# Altium footprint library EEG_PcbLib.PcbLib: 77 footprints (part 1 of 5)
Each footprint in its own frame and in the unit in brackets; x right, y up, seen from the top. Pads: shape width x height; smd on the part's side, far side on the other; paste and mask are expansions set on the pad; w line width, h text height; cw(c..) or ccw(c..) is an arc to the next point about the centre after c.
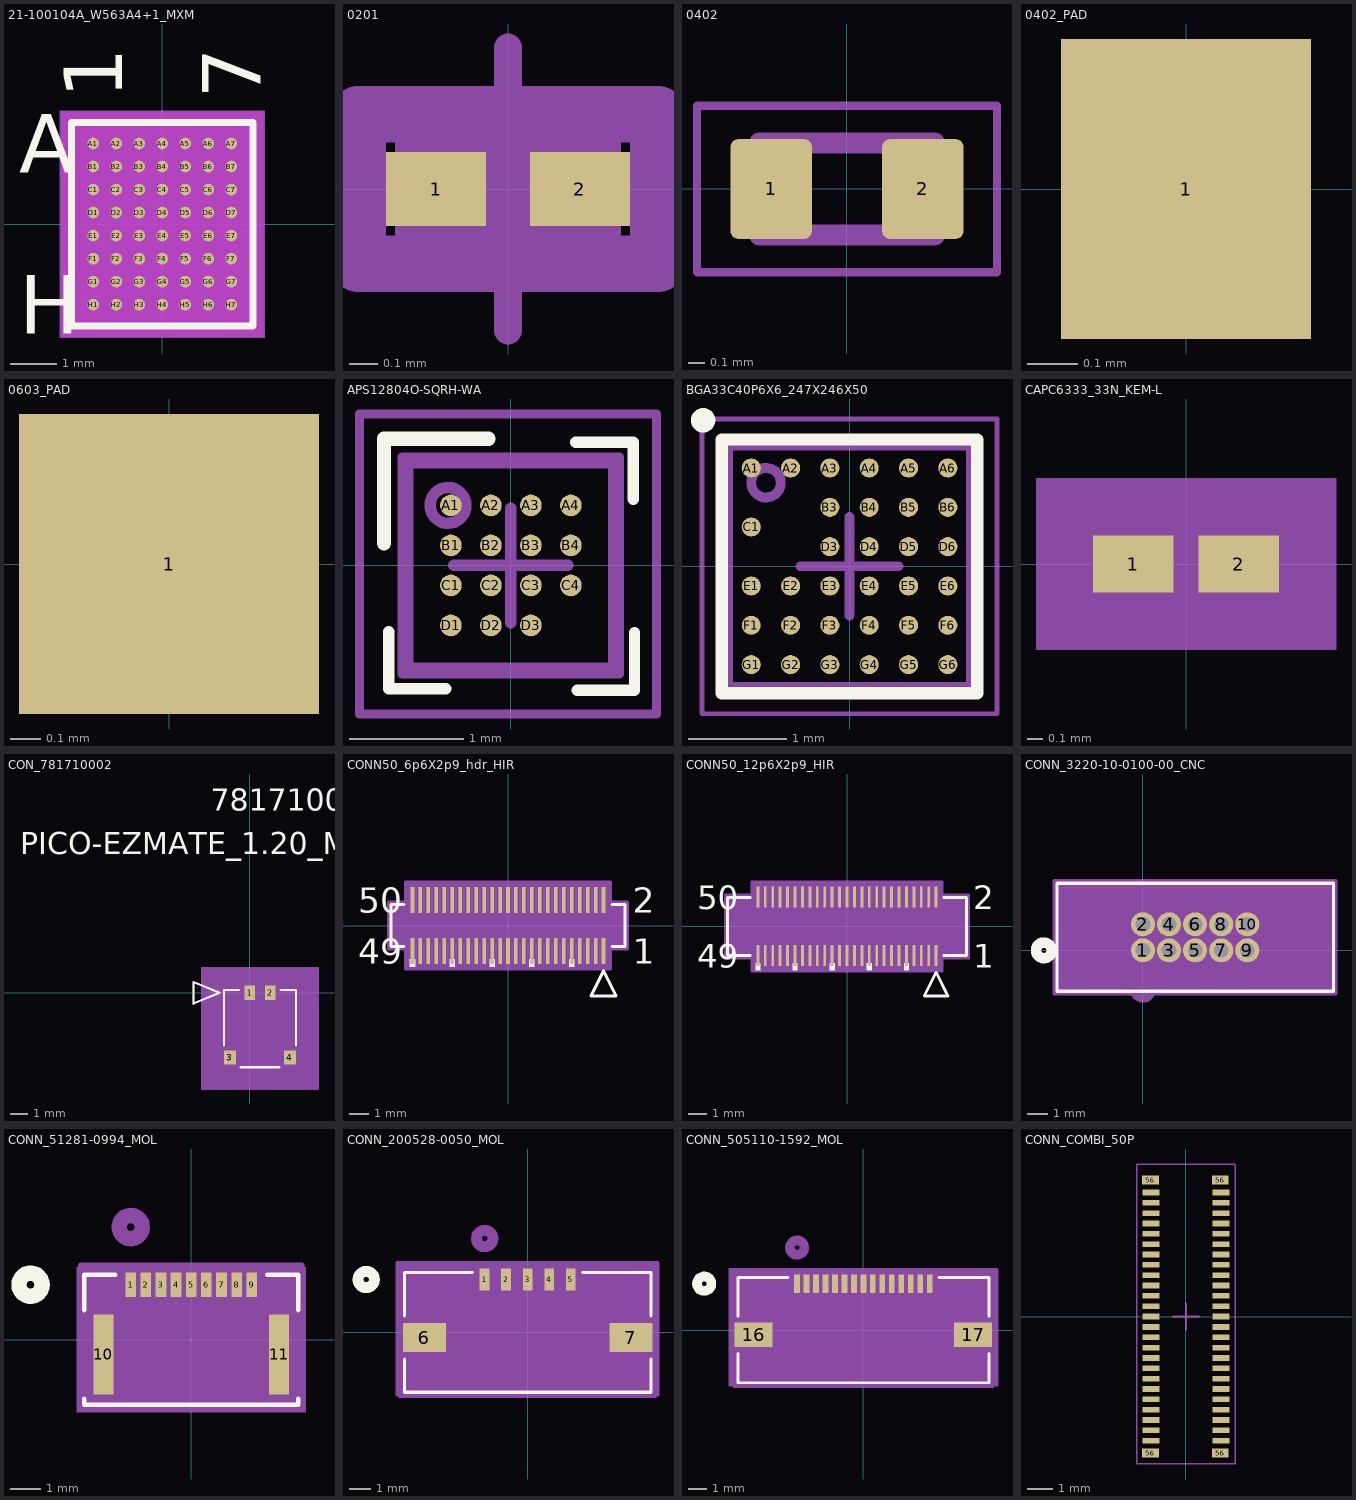
[diagram p0: the footprints below, top view; thin cyan lines are the x and y axes]

## 21-100104A_W563A4+1_MXM [mil]
pads (56):
  round 10 smd paste+0 mask+0: A1(-59.06,68.9) A2(-39.37,68.9) A3(-19.68,68.9) A4(0,68.9) A5(19.68,68.9) A6(39.37,68.9) A7(59.06,68.9) B1(-59.06,49.21) B2(-39.37,49.21) B3(-19.68,49.21) B4(0,49.21) B5(19.68,49.21) B6(39.37,49.21) B7(59.06,49.21) C1(-59.06,29.53) C2(-39.37,29.53) C3(-19.68,29.53) C4(0,29.53) C5(19.68,29.53) C6(39.37,29.53) C7(59.06,29.53) D1(-59.06,9.84) D2(-39.37,9.84) D3(-19.68,9.84) D4(0,9.84) D5(19.68,9.84) D6(39.37,9.84) D7(59.06,9.84) E1(-59.06,-9.84) E2(-39.37,-9.84) E3(-19.68,-9.84) E4(0,-9.84) E5(19.68,-9.84) E6(39.37,-9.84) E7(59.06,-9.84) F1(-59.06,-29.53) F2(-39.37,-29.53) F3(-19.68,-29.53) F4(0,-29.53) F5(19.68,-29.53) F6(39.37,-29.53) F7(59.06,-29.53) G1(-59.06,-49.21) G2(-39.37,-49.21) G3(-19.68,-49.21) G4(0,-49.21) G5(19.68,-49.21) G6(39.37,-49.21) G7(59.06,-49.21) H1(-59.06,-68.9) H2(-39.37,-68.9) H3(-19.68,-68.9) H4(0,-68.9) H5(19.68,-68.9) H6(39.37,-68.9) H7(59.06,-68.9)
Top Overlay:
  lines w6: -77.5,-87 -77.5,87 77.5,87 77.5,-87 -77.5,-87
  text "7" at 84.06,107 h50
  text "1" at -34.06,107 h50
  text "H" at -122.5,-93.9 h50
  text "A" at -122.5,43.9 h50
Bottom Overlay:
  text "7" at 34.06,107 h50
  text "1" at -84.06,107 h50
  text "H" at -97.5,-93.9 h50
  text "A" at -97.5,43.9 h50
Keep-Out Layer:
  region: -86.4,-96.24 -86.4,96.24 86.4,96.24 86.4,-96.24
Mechanical 5:
  region: 87.5,-97 -87.5,-97 -87.5,97 87.5,97
Mechanical 13:
  lines w1: -72.5,72.16 -62.66,82 ; -72.5,-82 -72.5,82 72.5,82 72.5,-82 -72.5,-82
  text "7" at 84.06,107 h50
  text "1" at -34.06,107 h50
  text "H" at -122.5,-93.9 h50
  text "A" at -122.5,43.9 h50
Mechanical 15:
  region: 82.5,-92 -82.5,-92 -82.5,92 82.5,92
  lines w6: -82.5,-92 82.5,-92 82.5,92 -82.5,92 -82.5,-92
3D body "21-100104A_W563A4+1_MXM.step": height 27.09, standoff -0.02, extent -72.52,-82.01 72.52,82.01

## 0201 [mm]
pads (2):
  rect 0.354x0.263 smd paste+0 mask+0: 1(-0.254,0) 2(0.254,0)
Top 3D Body:
  lines w0.2: -0.3,-0.15 0.3,-0.15 0.3,0.15 -0.3,0.15 -0.3,-0.15
Top Assembly:
  lines w0.2: -0.531,-0.265 0.531,-0.265 0.531,0.265 -0.531,0.265 -0.531,-0.265
  text ".Designator" at 0,0.187 h1
Top Courtyard:
  lines w0.2: -0.531,-0.265 0.531,-0.265 0.531,0.265 -0.531,0.265 -0.531,-0.265
Top Component Center:
  lines w0.1: -0.5,0 0.5,0 ; 0,-0.5 0,0.5
3D body "Res_Stackpole_Electronics_RMCF0201JT1K00_eec.STEP": height 0.25, standoff 0, extent -0.531,-0.265 0.531,0.265

## 0402 [mm]
pads (2):
  rrect20% 0.49x0.6 smd: 1(-0.455,0) 2(0.455,0)
Mechanical 13:
  lines w0.127: -0.525,-0.275 0.525,-0.275 0.525,0.275 -0.525,0.275 -0.525,-0.275
Mechanical 15:
  lines w0.05: -0.9,-0.5 0.9,-0.5 0.9,0.5 -0.9,0.5 -0.9,-0.5
3D body "0402.stp": height 0.33, standoff 0.01, extent -0.5,-0.25 0.5,0.25

## 0402_PAD [mm]
pads (1):
  rect 0.5x0.6 smd: 1(0,0)

## 0603_PAD [mm]
pads (1):
  rect 1x1 smd: 1(0,0)

## APS12804O-SQRH-WA [mm]
pads (15):
  round 0.19 smd paste+0 mask+0: A1(-0.525,0.525) A2(-0.175,0.525) A3(0.175,0.525) A4(0.525,0.525) B1(-0.525,0.175) B2(-0.175,0.175) B3(0.175,0.175) B4(0.525,0.175) C1(-0.525,-0.175) C2(-0.175,-0.175) C3(0.175,-0.175) C4(0.525,-0.175) D1(-0.525,-0.525) D2(-0.175,-0.525) D3(0.175,-0.525)
Top Overlay:
  lines w0.1: -1.069,-0.579 -1.069,-1.079 -0.569,-1.079 ; 0.569,1.079 1.069,1.079 1.069,0.579 ; 0.582,-1.091 1.082,-1.091 1.082,-0.591
  lines w0.125: -1.111,0.193 -1.111,1.107 -0.196,1.107
Top Assembly:
  circle w0.1: c-0.55,0.525 r0.157
  lines w0.08: -0.95,-0.95 0.95,-0.95 0.95,0.95 -0.95,0.95 -0.95,-0.95
Top Courtyard:
  lines w0.08: -1.325,-1.3 -1.325,1.325 1.275,1.325 1.275,-1.3 -1.325,-1.3
Top Component Outline:
  lines w0.1: -0.9,-0.9 0.9,-0.9 0.9,0.9 -0.9,0.9 -0.9,-0.9
Top Component Center:
  lines w0.1: -0.5,0 0.5,0 ; 0,-0.5 0,0.5

## BGA33C40P6X6_247X246X50 [mm] "BGA, 33-Leads, Body 2.47x2.46mmx0.50mm, Pitch 0.40mm"
height 0.5
pads (33):
  round 0.194 smd mask+0.05: A1(-1,1) A2(-0.6,1) A3(-0.2,1) A4(0.2,1) A5(0.6,1) A6(1,1) B3(-0.2,0.6) B4(0.2,0.6) B5(0.6,0.6) B6(1,0.6) C1(-1,0.4) D3(-0.2,0.2) D4(0.2,0.2) D5(0.6,0.2) D6(1,0.2) E1(-1,-0.2) E2(-0.6,-0.2) E3(-0.2,-0.2) E4(0.2,-0.2) E5(0.6,-0.2) E6(1,-0.2) F1(-1,-0.6) F2(-0.6,-0.6) F3(-0.2,-0.6) F4(0.2,-0.6) F5(0.6,-0.6) F6(1,-0.6) G1(-1,-1) G2(-0.6,-1) G3(-0.2,-1) G4(0.2,-1) G5(0.6,-1) G6(1,-1)
Top Overlay:
  circle w0.125: c-1.49,1.485 r0.062
  lines w0.125: -1.299,-1.291 -1.299,1.291 1.299,1.291 1.299,-1.291 -1.299,-1.291
Mechanical 7:
  circle w0.1: c-0.85,0.85 r0.15
  lines w0.1: -1.237,-1.228 1.237,-1.228 1.237,1.228 -1.237,1.228 -1.237,-1.228
  text ".Designator" at -0.4,-0.2 h0.38
Mechanical 15:
  lines w0.05: -1.5,-1.5 1.5,-1.5 1.5,1.5 -1.5,1.5 -1.5,-1.5
  lines w0.1: -0.5,0 0.5,0 ; 0,-0.5 0,0.5
3D body "BGA33C40P6X6_247X246X50.step": height 0.5, standoff 0, extent -1.235,-1.23 1.235,1.23

## CAPC6333_33N_KEM-L [mm]
pads (2):
  rect 0.535x0.381 smd paste+0 mask+0: 1(-0.352,0) 2(0.352,0)
Mechanical 5:
  region: 1.001,-0.571 -1.001,-0.571 -1.001,0.571 1.001,0.571
Mechanical 13:
  lines w0.025: -0.315,-0.165 -0.315,0.165 ; -0.315,-0.165 0.315,-0.165 ; -0.315,-0.165 -0.115,-0.165 -0.115,0.165 -0.315,0.165 ; -0.315,-0.165 -0.315,0.165 ; -0.315,0.165 0.315,0.165 ; 0.315,-0.165 0.315,0.165 ; 0.315,-0.165 0.315,0.165 ; 0.315,-0.165 0.115,-0.165 0.115,0.165 0.315,0.165
Mechanical 15:
  region: 0.823,-0.394 -0.823,-0.394 -0.823,0.394 0.823,0.394
  lines w0.152: -0.823,-0.394 0.823,-0.394 0.823,0.394 -0.823,0.394 -0.823,-0.394
3D body "CAPC6333_33N_KEM.step": height 0.33, standoff 0, extent -0.315,-0.165 0.315,0.165

## CON_781710002 [mm]
pads (4):
  rect 0.6x0.85 smd paste+0 mask+0.076: 1(0,0) 2(1.2,0)
  rect 0.7x0.8 smd paste+0 mask+0.076: 3(-1.15,-3.775) 4(2.35,-3.775)
Top Overlay:
  lines w0.127: -1.5,-3.055 -1.5,0.16 -0.62,0.16 ; -0.526,-4.34 1.726,-4.34 ; 1.82,0.16 2.7,0.16 2.7,-3.055 ; -3.278,-0.635 -1.754,0 -3.278,0.635 -3.278,-0.635
  text "PICO-EZMATE_1.20_MM_WTB_HDR_CONNECTOR_-2_CKT" at -13.37,8.07 h1.27
  text "781710002" at -2.258,10.61 h1.27
Mechanical 5:
  region: -1.881,0.541 3.081,0.541 3.081,-4.721 -1.881,-4.721
Mechanical 13:
  lines w0.127: -3.278,-0.635 -1.754,0 ; -3.278,-0.635 -3.278,0.635 ; -3.278,-0.635 -1.754,0 ; -3.278,-0.635 -3.278,0.635 ; -3.278,0.635 -1.754,0 ; -3.278,0.635 -1.754,0 ; -1.5,-4.34 -1.5,0.16 2.7,0.16 2.7,-4.34 -1.5,-4.34
  text "PICO-EZMATE_1.20_MM_WTB_HDR_CONNECTOR_-2_CKT" at -13.37,8.07 h1.27
  text "781710002" at -2.258,10.61 h1.27
Mechanical 15:
  region: 3.97,1.43 -2.77,1.43 -2.77,-5.61 3.97,-5.61
  lines w0.127: -2.77,-5.61 3.97,-5.61 3.97,1.43 -2.77,1.43 -2.77,-5.61
3D body "78171-0002--3DModel-STEP-361473.STEP": height 1.46, standoff 0.01, extent -1.5,-4.15 2.7,0.38
3D body: height 0.25, standoff 0, extent 0,0 0.254,0.254

## CONN50_6p6X2p9_hdr_HIR [mil]
pads (50):
  rect 7x51.56 smd paste+0 mask+0: 1(188.98,-50.5) 2(188.98,50.5) 3(173.23,-50.5) 4(173.23,50.5) 5(157.48,-50.5) 6(157.48,50.5) 7(141.73,-50.5) 8(141.73,50.5) 9(125.98,-50.5) 10(125.98,50.5) 11(110.24,-50.5) 12(110.24,50.5) 13(94.49,-50.5) 14(94.49,50.5) 15(78.74,-50.5) 16(78.74,50.5) 17(62.99,-50.5) 18(62.99,50.5) 19(47.24,-50.5) 20(47.24,50.5) 21(31.5,-50.5) 22(31.5,50.5) 23(15.75,-50.5) 24(15.75,50.5) 25(0,-50.5) 26(0,50.5) 27(-15.75,-50.5) 28(-15.75,50.5) 29(-31.5,-50.5) 30(-31.5,50.5) 31(-47.24,-50.5) 32(-47.24,50.5) 33(-62.99,-50.5) 34(-62.99,50.5) 35(-78.74,-50.5) 36(-78.74,50.5) 37(-94.49,-50.5) 38(-94.49,50.5) 39(-110.24,-50.5) 40(-110.24,50.5) 41(-125.98,-50.5) 42(-125.98,50.5) 43(-141.73,-50.5) 44(-141.73,50.5) 45(-157.48,-50.5) 46(-157.48,50.5) 47(-173.23,-50.5) 48(-173.23,50.5) 49(-188.98,-50.5) 50(-188.98,50.5)
Top Overlay:
  region: -183.98,-66.5 -193.98,-66.5 -193.98,-81.5 -183.98,-81.5
  region: -105.24,-66.5 -115.24,-66.5 -115.24,-81.5 -105.24,-81.5
  region: -26.5,-66.5 -36.5,-66.5 -36.5,-81.5 -26.5,-81.5
  region: 52.24,-66.5 42.24,-66.5 42.24,-81.5 52.24,-81.5
  region: 130.98,-66.5 120.98,-66.5 120.98,-81.5 130.98,-81.5
  lines w6: -205.58,-41.5 -231.77,-41.5 -231.77,41.5 -205.58,41.5 ; 205.58,-41.5 231.77,-41.5 231.77,41.5 205.58,41.5 ; 163.98,-139.38 213.98,-139.38 188.98,-89.38 163.98,-139.38
  text "49" at -296.77,-75.5 h50
  text "50" at -296.77,25.5 h50
  text "1" at 246.77,-75.5 h50
  text "2" at 246.77,25.5 h50
Mechanical 13:
  lines w1: -226.77,-36.5 -226.77,36.5 226.77,36.5 226.77,-36.5 -226.77,-36.5 ; 163.98,-139.38 213.98,-139.38 188.98,-89.38 163.98,-139.38
  text "49" at -296.77,-75.5 h50
  text "50" at -296.77,25.5 h50
  text "1" at 246.77,-75.5 h50
  text "2" at 246.77,25.5 h50
Mechanical 15:
  region: 226.77,-36.5 -226.77,-36.5 -226.77,36.5 226.77,36.5
  region: -202.48,-46.5 -236.77,-46.5 -236.77,46.5 -202.48,46.5 -202.48,86.28 202.48,86.28 202.48,46.5 236.77,46.5 236.77,-46.5 202.48,-46.5 202.48,-86.28 -202.48,-86.28
  lines w6: -236.77,-46.5 -202.48,-46.5 -202.48,-86.28 202.48,-86.28 202.48,-46.5 236.77,-46.5 236.77,46.5 202.48,46.5 202.48,86.28 -202.48,86.28 -202.48,46.5 -236.77,46.5 -236.77,-46.5
3D body "DF40C-50DP.stp": height 45.38, standoff 0.5, extent -226.77,-57.87 226.77,59.06

## CONN50_12p6X2p9_HIR [mil]
pads (50):
  rect 6x44.56 smd paste+0 mask+0: 1(188.98,-62) 2(188.98,62) 3(173.23,-62) 4(173.23,62) 5(157.48,-62) 6(157.48,62) 7(141.73,-62) 8(141.73,62) 9(125.98,-62) 10(125.98,62) 11(110.24,-62) 12(110.24,62) 13(94.49,-62) 14(94.49,62) 15(78.74,-62) 16(78.74,62) 17(62.99,-62) 18(62.99,62) 19(47.24,-62) 20(47.24,62) 21(31.5,-62) 22(31.5,62) 23(15.75,-62) 24(15.75,62) 25(0,-62) 26(0,62) 27(-15.75,-62) 28(-15.75,62) 29(-31.5,-62) 30(-31.5,62) 31(-47.24,-62) 32(-47.24,62) 33(-62.99,-62) 34(-62.99,62) 35(-78.74,-62) 36(-78.74,62) 37(-94.49,-62) 38(-94.49,62) 39(-110.24,-62) 40(-110.24,62) 41(-125.98,-62) 42(-125.98,62) 43(-141.73,-62) 44(-141.73,62) 45(-157.48,-62) 46(-157.48,62) 47(-173.23,-62) 48(-173.23,62) 49(-188.98,-62) 50(-188.98,62)
Top Overlay:
  region: -183.98,-77.5 -193.98,-77.5 -193.98,-92.5 -183.98,-92.5
  region: -105.24,-77.5 -115.24,-77.5 -115.24,-92.5 -105.24,-92.5
  region: -26.5,-77.5 -36.5,-77.5 -36.5,-92.5 -26.5,-92.5
  region: 52.24,-77.5 42.24,-77.5 42.24,-92.5 52.24,-92.5
  region: 130.98,-77.5 120.98,-77.5 120.98,-92.5 130.98,-92.5
  lines w6: -205.08,-61.5 -253,-61.5 -253,61.5 -205.08,61.5 ; 205.08,-61.5 253,-61.5 253,61.5 205.08,61.5 ; 163.98,-147.38 213.98,-147.38 188.98,-97.38 163.98,-147.38
  text "49" at -318,-87 h50
  text "50" at -318,37 h50
  text "1" at 268,-87 h50
  text "2" at 268,37 h50
Mechanical 13:
  lines w1: -248,-56.5 -248,56.5 248,56.5 248,-56.5 -248,-56.5 ; 163.98,-147.38 213.98,-147.38 188.98,-97.38 163.98,-147.38
  text "49" at -318,-87 h50
  text "50" at -318,37 h50
  text "1" at 268,-87 h50
  text "2" at 268,37 h50
Mechanical 15:
  region: 248,-56.5 -248,-56.5 -248,56.5 248,56.5
  region: -201.98,-66.5 -258,-66.5 -258,66.5 -201.98,66.5 -201.98,94.28 201.98,94.28 201.98,66.5 258,66.5 258,-66.5 201.98,-66.5 201.98,-94.28 -201.98,-94.28
  lines w6: -258,-66.5 -201.98,-66.5 -201.98,-94.28 201.98,-94.28 201.98,-66.5 258,-66.5 258,66.5 201.98,66.5 201.98,94.28 -201.98,94.28 -201.98,66.5 -258,66.5 -258,-66.5
3D body "DF40C-50DS.stp": height 57.59, standoff 0.5, extent -248.62,-66.54 247.44,66.54

## CONN_3220-10-0100-00_CNC [mil]
pads (10):
  round 46 / inner round 60 / far side round 46 hole 28 paste-23 mask+0: 1(0,0) 2(0,50) 3(50,0) 4(50,50) 5(100,0) 6(100,50) 7(150,0) 8(150,50) 9(200,0) 10(200,50)
Top Overlay:
  circle w20: c-190,0 r15
  lines w6: -165,-78.5 -165,128.5 365,128.5 365,-78.5 -165,-78.5
Bottom Overlay:
  circle w20: c-190,0 r15
Mechanical 13:
  circle w20: c0,-75 r15
  lines w1: -160,-73.5 -160,123.5 360,123.5 360,-73.5 -160,-73.5
Mechanical 15:
  region: 370,133.5 -170,133.5 -170,-83.5 370,-83.5
  lines w6: -170,-83.5 370,-83.5 370,133.5 -170,133.5 -170,-83.5

## CONN_51281-0994_MOL [mil]
pads (11):
  rect 14x32 smd paste+0 mask+0: 1(-78.74,71.63) 2(-59.06,71.63) 3(-39.37,71.63) 4(-19.68,71.63) 5(0,71.63) 6(19.68,71.63) 7(39.37,71.63) 8(59.06,71.63) 9(78.74,71.63)
  rect 26x104 smd: 10(-114.17,-18.93) 11(114.17,-18.93)
Top Overlay:
  circle w20: c-209,71.63 r15
  lines w6: -139,-76.56 -139,-84.5 139,-84.5 139,-76.56 ; -139,38.71 -139,84.5 -98.84,84.5 ; 98.84,84.5 139,84.5 139,38.71
Bottom Overlay:
  circle w20: c-209,71.63 r15
Mechanical 5:
  region: -149,94.5 149,94.5 149,-94.5 -149,-94.5
Mechanical 13:
  circle w20: c-78.74,146.63 r15
  lines w1: -134,-79.5 134,-79.5 134,79.5 -134,79.5 -134,-79.5
Mechanical 15:
  region: 144,97.63 -144,97.63 -144,-89.5 144,-89.5
  lines w6: -144,-89.5 -144,97.63 144,97.63 144,-89.5 -144,-89.5
3D body: height 10, standoff 0, extent 0,0 10,10
3D body "512810998.stp": height 46.06, standoff -1.18, extent -129.92,-74.8 129.92,84.64

## CONN_200528-0050_MOL [mil]
pads (7):
  rect 18x41 smd paste+0 mask+0: 1(-78.74,96.63) 2(-39.37,96.63) 3(0,96.63) 4(39.37,96.63) 5(78.74,96.63)
  rect 79x53 smd: 6(-188.98,-9.67) 7(188.98,-9.67)
Top Overlay:
  circle w20: c-295.5,96.63 r15
  lines w6: -225.5,-49.27 -225.5,-109.5 225.5,-109.5 225.5,-49.27 ; -225.5,29.93 -225.5,109.5 -100.84,109.5 ; 100.84,109.5 225.5,109.5 225.5,29.93
Bottom Overlay:
  circle w20: c-295.5,96.63 r15
Mechanical 5:
  region: -235.5,119.5 235.5,119.5 235.5,-119.5 -235.5,-119.5
Mechanical 13:
  circle w20: c-78.74,171.63 r15
  lines w1: -220.5,-104.5 220.5,-104.5 220.5,104.5 -220.5,104.5 -220.5,-104.5
Mechanical 15:
  region: 238.48,127.13 -238.48,127.13 -238.48,-114.5 238.48,-114.5
  lines w6: -238.48,-114.5 -238.48,127.13 238.48,127.13 238.48,-114.5 -238.48,-114.5
3D body: height 10, standoff 0, extent 0,0 10,10
3D body "2005280050.stp": height 77.67, standoff 0.5, extent -216.54,-106.3 216.54,102.36

## CONN_505110-1592_MOL [mil]
pads (17):
  rect 12x39 smd paste+0 mask+0: 1(-137.8,96.63) 2(-118.11,96.63) 3(-98.43,96.63) 4(-78.74,96.63) 5(-59.06,96.63) 6(-39.37,96.63) 7(-19.68,96.63) 8(0,96.63) 9(19.68,96.63) 10(39.37,96.63) 11(59.06,96.63) 12(78.74,96.63) 13(98.43,96.63) 14(118.11,96.63) 15(137.8,96.63)
  rect 79x51 smd: 16(-228.35,-9.67) 17(228.35,-9.67)
Top Overlay:
  circle w20: c-331,96.63 r15
  lines w6: -261,-48.27 -261,-109.5 261,-109.5 261,-48.27 ; -261,28.93 -261,109.5 -156.9,109.5 ; 156.9,109.5 261,109.5 261,28.93
Bottom Overlay:
  circle w20: c-331,96.63 r15
Mechanical 5:
  region: -271,119.5 271,119.5 271,-119.5 -271,-119.5
Mechanical 13:
  circle w20: c-137.8,171.63 r15
  lines w1: -256,-104.5 -256,104.5 256,104.5 256,-104.5 -256,-104.5
Mechanical 15:
  region: 277.85,126.13 -277.85,126.13 -277.85,-114.5 277.85,-114.5
  lines w6: -277.85,-114.5 277.85,-114.5 277.85,126.13 -277.85,126.13 -277.85,-114.5
3D body "5051101592.stp": height 75.31, standoff 0.5, extent -255.91,-106.3 255.91,102.36
3D body: height 10, standoff 0, extent 0,0 10,10

## CONN_COMBI_50P [mm] "50Pin 0.4mm pitch connector footprint that accepts (male) connectors intended for different stacking heights:  Hirose - DF40C-50DP-0.4V(51) for 1.5mm - 3mm stacking height , JAE - WP7B-P050VA1-R8000 - for 0.7mm stacking height"
pads (54):
  rect 0.66x0.22 smd: 1(1.355,4.8) 2(1.355,4.4) 3(1.355,4) 4(1.355,3.6) 5(1.355,3.2) 6(1.355,2.8) 7(1.355,2.4) 8(1.355,2) 9(1.355,1.6) 10(1.355,1.2) 11(1.355,0.8) 12(1.355,0.4) 13(1.355,0) 14(1.355,-0.4) 15(1.355,-0.8) 16(1.355,-1.2) 17(1.355,-1.6) 18(1.355,-2) 19(1.355,-2.4) 20(1.355,-2.8) 21(1.355,-3.2) 22(1.355,-3.6) 23(1.355,-4) 24(1.355,-4.4) 25(1.355,-4.8) 26(-1.355,-4.8) 27(-1.355,-4.4) 28(-1.355,-4) 29(-1.355,-3.6) 30(-1.355,-3.2) 31(-1.355,-2.8) 32(-1.355,-2.4) 33(-1.355,-2) 34(-1.355,-1.6) 35(-1.355,-1.2) 36(-1.355,-0.8) 37(-1.355,-0.4) 38(-1.355,0) 39(-1.355,0.4) 40(-1.355,0.8) 41(-1.355,1.2) 42(-1.355,1.6) 43(-1.355,2) 44(-1.355,2.4) 45(-1.355,2.8) 46(-1.355,3.2) 47(-1.355,3.6) 48(-1.355,4) 49(-1.355,4.4) 50(-1.355,4.8)
  rect 0.65x0.35 smd: 56(-1.375,-5.275) 56(-1.375,5.275) 56(1.325,-5.275) 56(1.325,5.275)
Top Assembly:
  lines w0.05: -1.9,-5.7 -1.9,5.9 1.9,5.9 1.9,-5.7 -1.9,-5.7
Top Courtyard:
  lines w0.05: -1.9,-5.7 -1.9,5.9 1.9,5.9 1.9,-5.7 -1.9,-5.7
Top Component Center:
  lines w0.08: -0.5,0 0.5,0 ; 0,-0.5 0,0.5
3D body "DF40C-50DP.stp": height 1.14, standoff 0, extent -1.492,-5.737 1.478,5.783